# Altium footprint library SparkFun-PowerIC.PCBLIB: 69 footprints (part 4 of 5)
Each footprint in its own frame and in the unit in brackets; x right, y up, seen from the top. Pads: shape width x height; smd on the part's side, far side on the other; paste and mask are expansions set on the pad; w line width, h text height; cw(c..) or ccw(c..) is an arc to the next point about the centre after c.
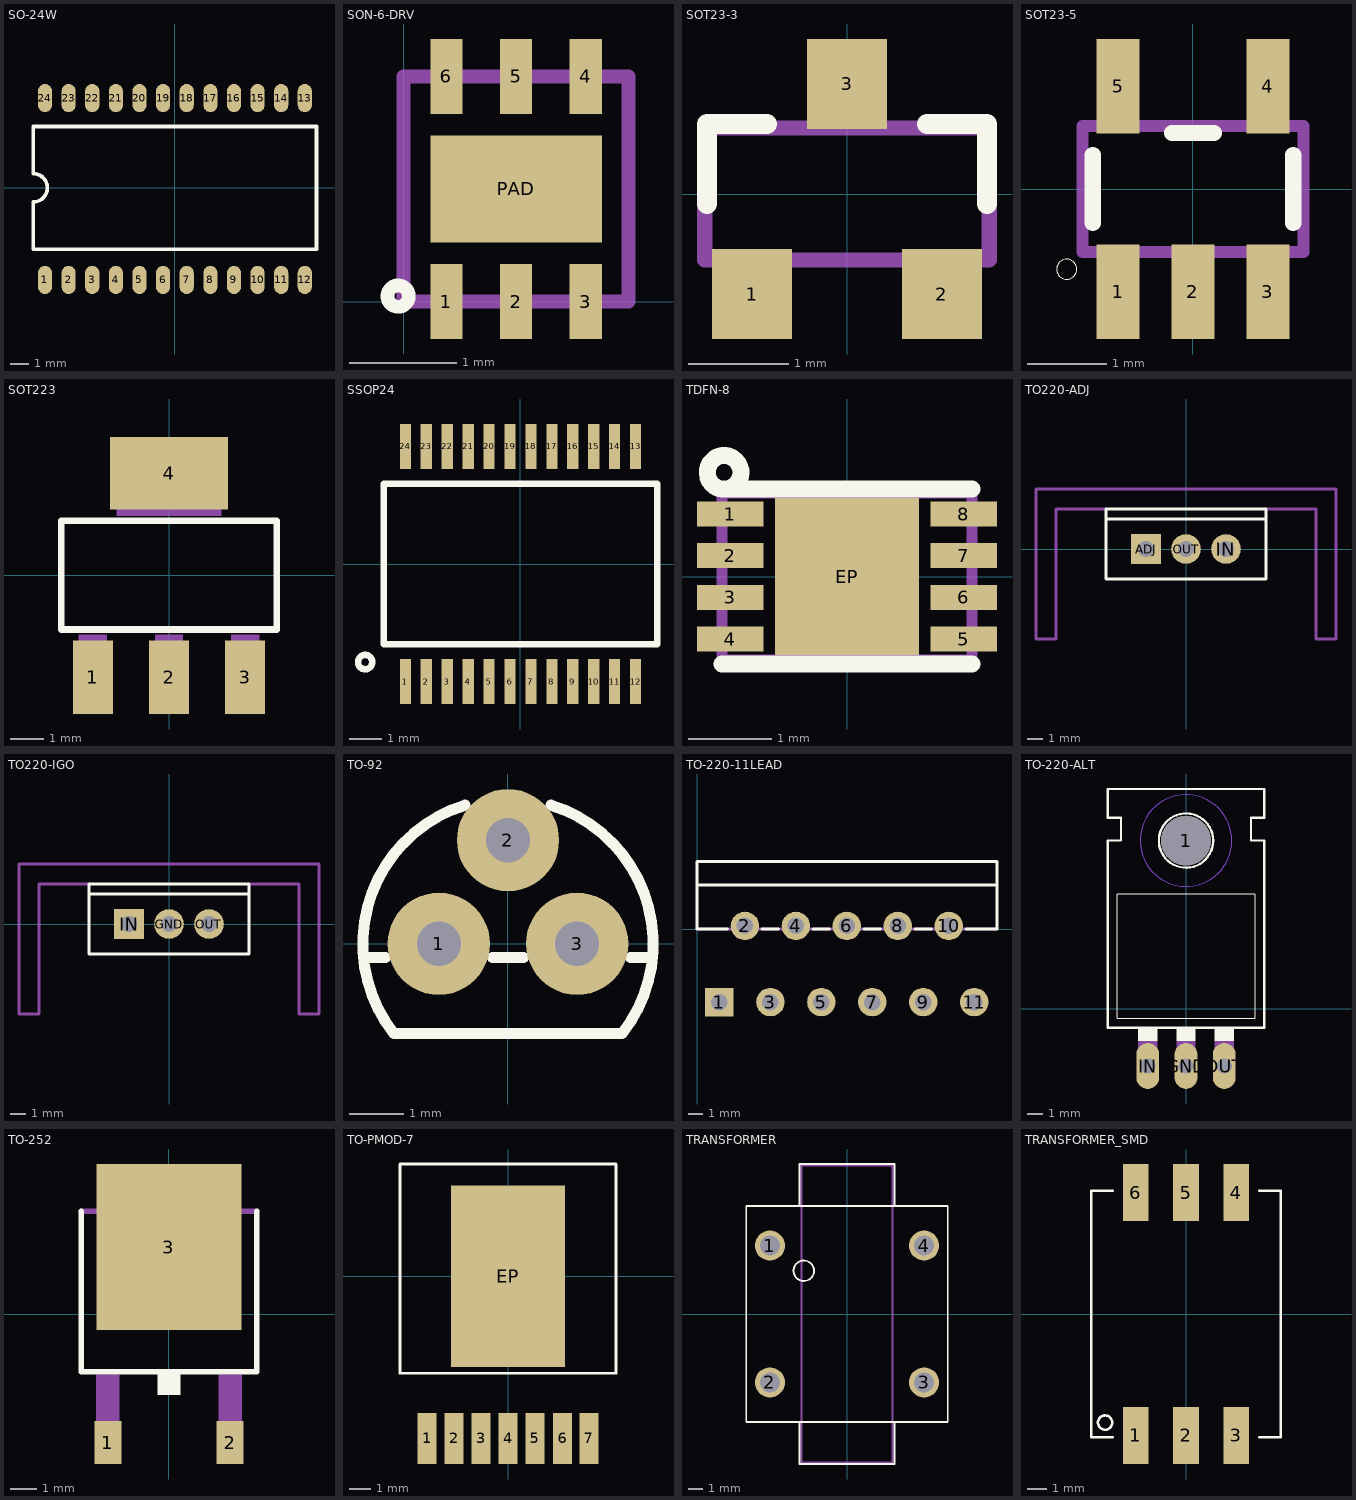
[diagram p3: the footprints below, top view; thin cyan lines are the x and y axes]

## SO-24W [mil]
pads (24):
  rrect100% 30x60 smd: 1(-275,-195) 2(-225,-195) 3(-175,-195) 4(-125,-195) 5(-75,-195) 6(-25,-195) 7(25,-195) 8(75,-195) 9(125,-195) 10(175,-195) 11(225,-195) 12(275,-195) 13(275,190) 14(225,190) 15(175,190) 16(125,190) 17(75,190) 18(25,190) 19(-25,190) 20(-75,190) 21(-125,190) 22(-175,190) 23(-225,190) 24(-275,190)
Top Overlay:
  lines w8: -300,-130 300,-130 300,130 -300,130 -300,30 cw(c-300,0) -300,-30 -300,-130

## SON-6-DRV [mm]
pads (7):
  rect 0.3x0.7 smd: 1(0.4,0) 2(1.05,0) 3(1.7,0) 4(1.7,2.1) 5(1.05,2.1) 6(0.4,2.1)
  rect 1.6x1 smd: PAD(1.05,1.05)
Top Overlay:
  circle w0.127: c-0.05,0.05 r0.1
Mechanical 16:
  circle w0.127: c0.65,1.05 r0.18
  circle w0.127: c1.45,1.05 r0.18
  lines w0.127: 0,0 0,2.1 2.1,2.1 2.1,0 0,0

## SOT23-3 [mil]
pads (3):
  rect 31.5x35.43 smd: 1(-37.4,-39.37) 2(37.4,-39.37) 3(0,43.31)
Top Overlay:
  lines w8: -55.12,-3.94 -55.12,27.56 -31.5,27.56 ; 31.5,27.56 55.12,27.56 55.12,-3.94
Mechanical 16:
  lines w6: -56,-26 56,-26 56,26 -56,26 -56,-26

## SOT23-5 [mm]
pads (5):
  rect 0.55x1.2 smd: 1(-0.95,-1.3) 2(0,-1.3) 3(0.95,-1.3) 4(0.95,1.3) 5(-0.95,1.3)
Top Overlay:
  circle w0: c-1.6,-1.016 r0.127
  lines w0.203: -1.27,-0.43 -1.27,0.43 ; -0.268,0.709 0.268,0.709 ; 1.27,-0.43 1.27,0.43
Mechanical 16:
  rectangle: -1.2,-1.5 -0.7,-0.85
  rectangle: -0.25,-1.5 0.25,-0.85
  rectangle: 0.7,-1.5 1.2,-0.85
  rectangle: 0.7,0.85 1.2,1.5
  rectangle: -1.2,0.85 -0.7,1.5
  lines w0.152: -1.4,-0.8 1.4,-0.8 1.4,0.8 -1.4,0.8 -1.4,-0.8

## SOT223 [mil]
pads (4):
  rect 48x88 smd: 1(-91,-122) 2(0,-122) 3(91,-122)
  rect 141.73x86.61 smd: 4(0,122.01)
Top Overlay:
  lines w8: -129,-65 129,-65 129,65 -129,65 -129,-65
Mechanical 16:
  rectangle: -63,71 63,144
  rectangle: -17,-144 17,-71
  rectangle: -108,-144 -74,-71
  rectangle: 74,-144 108,-71
  rectangle: -63,71 63,144
  rectangle: -17,-144 17,-71
  rectangle: -108,-144 -74,-71
  rectangle: 74,-144 108,-71

## SSOP24 [mil]
pads (24):
  rect 13.7x55 smd: 1(-140.75,-143.94) 2(-115.16,-143.94) 3(-89.57,-143.94) 4(-63.98,-143.94) 5(-38.39,-143.94) 6(-12.8,-143.94) 7(12.8,-143.94) 8(38.39,-143.94) 9(63.98,-143.94) 10(89.57,-143.94) 11(115.16,-143.94) 12(140.75,-143.94) 13(140.75,143.94) 14(115.16,143.94) 15(89.57,143.94) 16(63.98,143.94) 17(38.39,143.94) 18(12.8,143.94) 19(-12.8,143.94) 20(-38.39,143.94) 21(-63.98,143.94) 22(-89.57,143.94) 23(-115.16,143.94) 24(-140.75,143.94)
Top Overlay:
  circle w8: c-190,-120 r8.78
  lines w8: -167.32,-98.43 167.32,-98.43 167.32,98.43 -167.32,98.43 -167.32,-98.43

## TDFN-8 [mil]
pads (9):
  rect 31.5x11.81 smd: 1(-55.12,29.53) 2(-55.12,9.84) 3(-55.12,-9.84) 4(-55.12,-29.53) 5(55.12,-29.53) 6(55.12,-9.84) 7(55.12,9.84) 8(55.12,29.53)
  rect 68.11x74.02 smd: EP(0,0)
Top Overlay:
  lines w5: -59.06,41.34 -57.09,41.34
  lines w8: -59.06,-41.34 59.06,-41.34 ; -59.06,41.34 cw(c-58.08,49.22) -57.09,41.34 59.06,41.34
Top Paste:
  rectangle: -13,-13 13,13
  rectangle: -69.9,24.3 -40.2,34.7
  rectangle: -70,4.5 -40.3,14.9
  rectangle: -70,-15 -40.3,-4.6
  rectangle: -70,-34.8 -40.3,-24.4
  rectangle: 40.2,24.3 69.9,34.7
  rectangle: 40.3,4.7 70,15.1
  rectangle: 40.3,-15 70,-4.6
  rectangle: 40.4,-34.7 70.1,-24.3
Top Solder:
  rectangle: -70.87,23.62 -39.37,35.43
  rectangle: -70.87,23.62 -39.37,35.43
  rectangle: -70.87,-15.75 -39.37,-3.94
  rectangle: -70.87,3.94 -39.37,15.75
  rectangle: -70.87,-35.43 -39.37,-23.62
  rectangle: 39.37,23.62 70.87,35.43
  rectangle: 39.37,3.94 70.87,15.75
  rectangle: 39.37,-15.75 70.87,-3.94
  rectangle: 39.37,-35.43 70.87,-23.62
  rectangle: -34.06,-37.01 34.06,37.01
Mechanical 16:
  lines w5: -59.06,-39.37 -59.06,39.37 59.06,39.37 59.06,-39.37 -59.06,-39.37

## TO220-ADJ [mil]
pads (3):
  rect 74x74 hole 39.37: ADJ(-100,0)
  round 74 hole 39.37: IN(100,0) OUT(0,0)
Top Overlay:
  lines w8: -200,75 -200,-75 200,-75 200,75 ; -200,75 -200,100 200,100 200,75 ; -200,75 200,75
Mechanical 16:
  lines w8: -200,100 -325,100 -325,-225 -375,-225 -375,150 375,150 375,-225 325,-225 325,100 200,100

## TO220-IGO [mil]
pads (3):
  round 74 hole 39.37: GND(0,0) OUT(100,0)
  rect 74x74 hole 39.37: IN(-100,0)
Top Overlay:
  lines w8: -200,75 -200,-75 200,-75 200,75 ; -200,75 -200,100 200,100 200,75 ; -200,75 200,75
Mechanical 16:
  lines w8: -200,100 -325,100 -325,-225 -375,-225 -375,150 375,150 375,-225 325,-225 325,100 200,100

## TO-92 [mil]
pads (3):
  round 74 hole 32: 1(-50,0) 2(0,75) 3(50,0)
Top Overlay:
  lines w8: -104.52,-10 -88.73,-10 ; -30.96,100.33 ccw(c0,0) -82.46,-65 82.46,-65 ccw(c0,0) 30.96,100.33 ; -11.27,-10 11.27,-10 ; 88.73,-10 104.52,-10

## TO-220-11LEAD [mm]
pads (11):
  rect 1.9x1.9 hole 1.1: 1(1.5,-4.87)
  round 1.9 hole 1.1: 2(3.2,0.21) 3(4.9,-4.87) 4(6.6,0.21) 5(8.3,-4.87) 6(10,0.21) 7(11.7,-4.87) 8(13.4,0.21) 9(15.1,-4.87) 10(16.8,0.21) 11(18.5,-4.87)
Top Overlay:
  lines w0.203: 2.05,0 0,0 0,2.95 ; 4.35,0 5.45,0 ; 7.75,0 8.85,0 ; 11.15,0 12.25,0 ; 14.55,0 15.65,0 ; 17.95,0 20,0 ; 20.02,0 20.02,2.95 ; 0,2.95 0,4.5 20.02,4.5 20.02,2.95 ; 0,2.95 20.02,2.95
Mechanical 16:
  lines w0.203: 0,0 20.02,0

## TO-220-ALT [mil]
pads (4):
  round 130 hole 130: 1(0,440)
  oval 60x120 hole 40: GND(0,-150) IN(-100,-150) OUT(100,-150)
Bottom Layer keep-out:
  circle w0: c0,440 r120
Top Overlay:
  circle w6: c0,440 r71
  rectangle: 75,-85 125,-50
  rectangle: -25,-85 25,-50
  rectangle: -125,-85 -75,-50
  lines w2: -180,-25 180,-25 180,300 -180,300 -180,-25
  lines w6: -205,-50 205,-50 205,440 170,440 170,500 205,500 205,575 -205,575 -205,500 -170,500 -170,440 -205,440 -205,-50
Mechanical 16:
  rectangle: 75,-150 125,-85
  rectangle: -25,-150 25,-85
  rectangle: -125,-150 -75,-85
  text "-" at -20,0 h77.5
  text "I" at -120,0 h77.5
  text "O" at 80,0 h77.5
Via Holes:
  circle w0: c0,440 r120

## TO-252 [mm]
pads (3):
  rect 1x1.6 smd: 1(-2.28,-4.8) 2(2.28,-4.8)
  rect 5.4x6.2 smd: 3(0,2.5)
Top Overlay:
  rectangle: -0.432,-3.023 0.432,-2.261
  lines w0.203: -3.277,3.835 -3.277,-2.159 3.277,-2.159 3.277,3.835
Mechanical 16:
  rectangle: -2.718,-5.156 -1.854,-2.261
  rectangle: 1.854,-5.156 2.718,-2.261
  region: 0,0 0.254,0 0.254,0.254 0,0.254
  lines w0.203: -3.277,3.835 3.277,3.835 ; -2.565,3.937 -2.565,4.648 -2.108,5.105 2.108,5.105 2.565,4.648 2.565,3.937 -2.565,3.937

## TO-PMOD-7 [mm]
pads (8):
  rect 0.89x2.41 smd: 1(-3.81,-7.63) 2(-2.54,-7.63) 3(-1.27,-7.63) 4(0,-7.63) 5(1.27,-7.63) 6(2.57,-7.63) 7(3.81,-7.63)
  rect 5.35x8.54 smd: EP(0,0)
Top Overlay:
  lines w0.127: -5.08,-4.57 -5.08,5.28 5.08,5.28 5.08,-4.57 -5.08,-4.57

## TRANSFORMER [mm]
pads (4):
  round 2.1 hole 1.4: 1(-5.35,4.75) 2(-5.35,-4.75) 3(5.35,-4.75) 4(5.35,4.75)
Top Overlay:
  circle w0.127: c-3,3 r0.71
  lines w0.127: -3.302,-7.518 -3.302,-10.414 3.302,-10.414 3.302,-7.518 ; -3.302,7.544 -3.302,10.414 3.302,10.414 3.302,7.518 ; -7,-7.5 -7,7.5 7,7.5 7,-7.5 -7,-7.5
Mechanical 16:
  lines w0.127: -3.15,-10.3 -3.15,10.3 3.15,10.3 3.15,-10.3 -3.15,-10.3

## TRANSFORMER_SMD [mm]
pads (6):
  rect 1.3x2.9 smd: 1(-2.54,-6.15) 2(0,-6.15) 3(2.54,-6.15) 4(2.54,6.15) 5(0,6.15) 6(-2.54,6.15)
Top Overlay:
  circle w0.127: c-4.1,-5.5 r0.36
  lines w0.127: -3.7,-6.25 -4.8,-6.25 -4.8,6.25 -3.7,6.25 ; 3.7,-6.25 4.8,-6.25 4.8,6.25 3.7,6.25